# Altium footprint library ESP8266.PcbLib: 2 footprints
Each footprint in its own frame and in the unit in brackets; x right, y up, seen from the top. Pads: shape width x height; smd on the part's side, far side on the other; paste and mask are expansions set on the pad; w line width, h text height; cw(c..) or ccw(c..) is an arc to the next point about the centre after c.
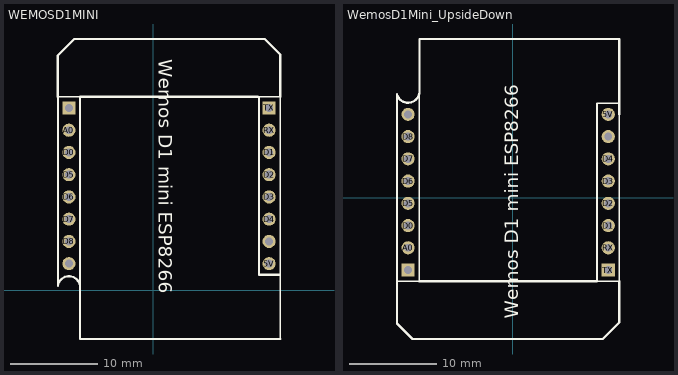
[diagram p0: the footprints below, top view; thin cyan lines are the x and y axes]

## WEMOSD1MINI [mm] "ESP8266 Wemos D1 mini"
pads (16):
  round 1.5 hole 0.9: 3V3(-9.652,3.048) 5V(13.208,3.048) A0(-9.652,18.288) D0(-9.652,15.748) D1(13.208,15.748) D2(13.208,13.208) D3(13.208,10.668) D4(13.208,8.128) D5(-9.652,13.208) D6(-9.652,10.668) D7(-9.652,8.128) D8(-9.652,5.588) GND(13.208,5.588) RX(13.208,18.288)
  rect 1.5x1.5 hole 0.9: RST(-9.652,20.828) TX(13.208,20.828)
Top Overlay:
  lines w0.2: -10.922,22.098 -8.382,22.098 -8.382,1.59 ; 12.065,22.098 14.478,22.098 14.478,-5.557
  lines w0.203: -10.922,22.098 -10.912,22.088 -10.912,0.507 ; -8.382,1.59 -8.382,-5.557 11.907,-5.557 ; 12.065,1.778 12.065,22.098
  lines w0.254: -10.922,22.098 -10.922,26.81 -9.03,28.702 12.7,28.702 14.478,26.924 14.478,22.098 ; -10.9,0.582 cw(c-9.652,0.348) -8.395,0.532 ; -8.382,22.098 11.938,22.098 ; 11.907,-5.557 14.478,-5.557 ; 12.065,1.778 14.351,1.778
  text "Wemos D1 mini ESP8266" at 0.635,26.416 h1.52

## WemosD1Mini_UpsideDown [mm] "ESP8266 Wemos D1 mini"
pads (16):
  round 1.5 hole 0.9: 3V3(-11.938,9.525) 5V(10.922,9.525) A0(-11.938,-5.715) D0(-11.938,-3.175) D1(10.922,-3.175) D2(10.922,-0.635) D3(10.922,1.905) D4(10.922,4.445) D5(-11.938,-0.635) D6(-11.938,1.905) D7(-11.938,4.445) D8(-11.938,6.985) GND(10.922,6.985) RX(10.922,-5.715)
  rect 1.5x1.5 hole 0.9: RST(-11.938,-8.255) TX(10.922,-8.255)
Top Overlay:
  lines w0.2: -13.208,10.795 -13.208,-9.525 -10.668,-9.525 -10.668,12.235 ; 9.652,-9.525 9.652,10.795 12.192,10.795 12.192,-9.525 9.652,-9.525
  lines w0.254: -13.208,-9.525 -13.208,-14.351 -11.43,-16.129 10.3,-16.129 12.192,-14.237 12.192,-9.525 ; -13.208,10.795 -13.208,11.814 ; -13.198,11.814 ccw(c-11.938,12.15) -10.637,12.235 -10.637,18.13 12.192,18.13 ; -10.668,-9.525 9.652,-9.525 ; 12.192,9.525 12.192,18.034
  text "Wemos D1 mini ESP8266" at 0.635,-13.843 h1.52